# EAGLE library part 62002421821 (library Board-to-Board (rev18a))
WR-PHD 2.00mm Dual Socket Header, 24 Pins=>Code : Con_BTB_SHD_2.00_2_62002421821 <http://katalog.we-online.de/media/thumbs2/eican/thb_Con_BTB_SHD_2.00_2_6200xx21821_pf2.jpg> Details see: http://katalog.we-online.de/en/em/PHD_2_00_DUAL_SOCKET_HEADER_6200XX21821 Created 2014-06-03, Karrer Zheng 2014 (C) Würth Elektronik
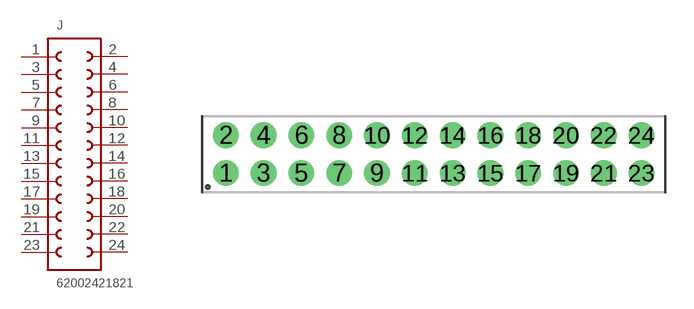
[diagram p250: symbol with the pads of 62002421821; footprint 62002421821]

Designator prefix J

## 62002421821  [62002421821]
1  1  pas
2  24  pas
3  2  pas
4  23  pas
5  3  pas
6  22  pas
7  4  pas
8  21  pas
9  5  pas
10  20  pas
11  6  pas
12  19  pas
13  7  pas
14  18  pas
15  8  pas
16  17  pas
17  9  pas
18  16  pas
19  10  pas
20  15  pas
21  11  pas
22  14  pas
23  12  pas
24  13  pas

## Footprint 62002421821 (pad centres in mm)
WR-PHD 2.00mm Dual Socket Header, 24 Pins
drill 0.85: 1 -11,-1; 2 -11,1; 3 -9,-1; 4 -9,1; 5 -7,-1; 6 -7,1; 7 -5,-1; 8 -5,1; 9 -3,-1; 10 -3,1; 11 -1,-1; 12 -1,1; 13 1,-1; 14 1,1; 15 3,-1; 16 3,1; 17 5,-1; 18 5,1; 19 7,-1; 20 7,1; 21 9,-1; 22 9,1; 23 11,-1; 24 11,1